# EAGLE library part 338070-06 (library con-te-micro-match)
RECEPTACAL
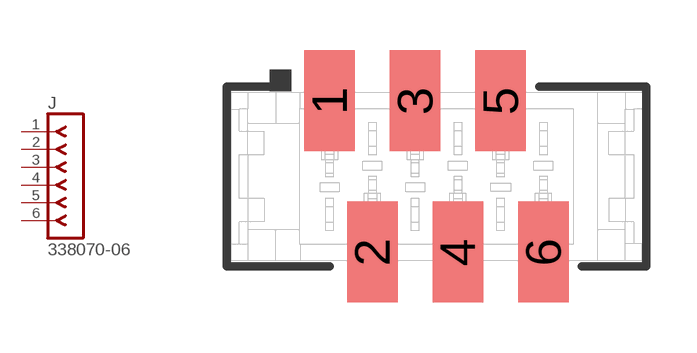
[diagram p0: symbol with the pads of 338070-06; footprint 338070-06]

Designator prefix J

## 338070-06  [338070-06]
1  1  pas
2  2  pas
3  3  pas
4  4  pas
5  5  pas
6  6  pas

## Footprint 338070-06 (pad centres in mm)
RECEPTACAL
smd 1.5 x 3: 1 -3.175,2.25; 2 -1.905,-2.25; 3 -0.635,2.25; 4 0.635,-2.25; 5 1.905,2.25; 6 3.175,-2.25